# Altium schematic symbol library 嵌入式元件.SchLib: 57 symbols
Pins are listed as number, name and electrical type; pins without a type are passive.

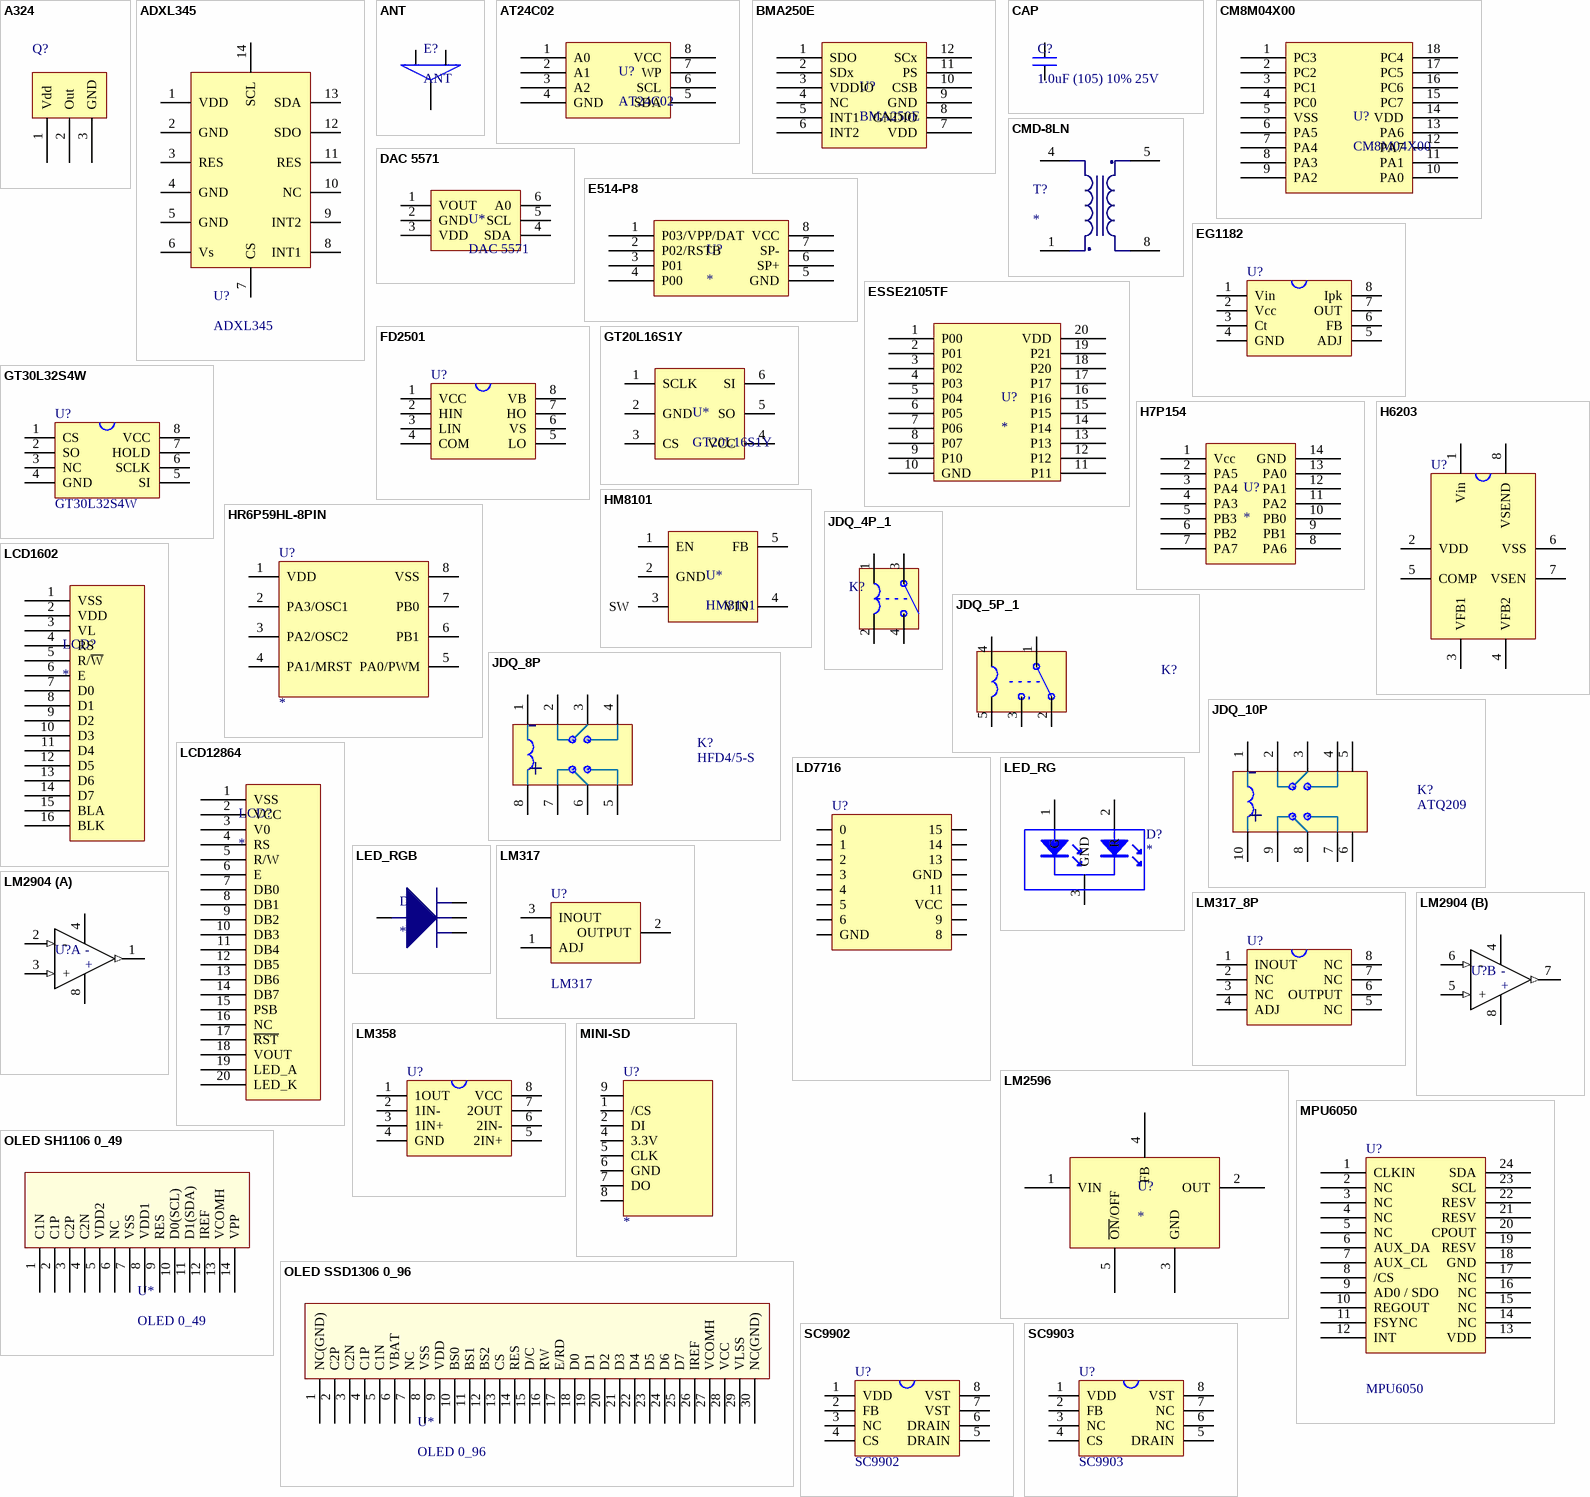
[diagram p0: symbols A324 to SC9903]

## A324
designator Q?
霍尔元件 线性
footprint LC-SOT-23-3L (http://www.aosmd.com/res/packaging_information/SOT-23-3L.pdf)
pins: 1 Vdd, 2 Out, 3 GND

## ADXL345
designator U?
传感器 角速度
footprint ADXL345
pins: 1 VDD, 2 GND, 3 RES, 4 GND, 5 GND, 6 Vs, 7 CS, 8 INT1, 9 INT2, 10 NC, 11 RES, 12 SDO, 13 SDA, 14 SCL

## ANT
designator E?
天线
footprint ANT2
footprint ANT1 (天线接口 插件)
pins: 1, 2, 2
1 alternate drawing of the same symbol

## AT24C02
designator U?
EEPROM
footprint SOP-8_150mil
pins: 1 A0, 2 A1, 3 A2, 4 GND, 5 SDA, 6 SCL, 7 WP, 8 VCC

## BMA250E
designator U?
传感器 角度传感器
footprint BMA250E
pins: 1 SDO, 2 SDx, 3 VDDIO, 4 NC, 5 INT1, 6 INT2, 7 VDD, 8 GNDIO, 9 GND, 10 CSB, 11 PS, 12 SCx

## CAP
designator C?, comment 1.0uF (105) 10% 25V
电容 贴片
footprint LC-0603_C
footprint LC-0805_C
footprint LC-1206_C
footprint RAD0.2
pins: 1, 2

## CM8M04X00
designator U?
MCU
footprint SO-18W
pins: 1 PC3, 2 PC2, 3 PC1, 4 PC0, 5 VSS, 6 PA5, 7 PA4, 8 PA3, 9 PA2, 10 PA0, 11 PA1, 12 PA7, 13 PA6, 14 VDD, 15 PC7, 16 PC6, 17 PC5, 18 PC4

## CMD-8LN
designator T?
变压器
pins: 1, 4, 5, 8

## DAC 5571
designator U*
DAC IC
footprint SOT-23-6
pins: 1 VOUT, 2 GND, 3 VDD, 4 SDA, 5 SCL, 6 A0

## E514-P8
designator U?
语音芯片
footprint LC-SOP-8_150mil
pins: 1 P03/VPP/DAT, 2 P02/RSTB, 3 P01, 4 P00, 5 GND, 6 SP+, 7 SP-, 8 VCC

## EG1182
designator U?
电源IC
footprint SO-8N
pins: 1 Vin, 2 Vcc, 3 Ct, 4 GND, 5 ADJ, 6 FB, 7 OUT, 8 Ipk

## ESSE2105TF
designator U?
MCU
footprint SSOP-20
pins: 1 P00, 2 P01, 3 P02, 4 P03, 5 P04, 6 P05, 7 P06, 8 P07, 9 P10, 10 GND, 11 P11, 12 P12, 13 P13, 14 P14, 15 P15, 16 P16, 17 P17, 18 P20, 19 P21, 20 VDD

## FD2501
designator U?
MOS驱动IC
footprint SO-8N
pins: 1 VCC, 2 HIN, 3 LIN, 4 COM, 5 LO, 6 VS, 7 HO, 8 VB

## GT20L16S1Y
designator U*
字库IC
footprint SOT-23-6
pins: 1 SCLK, 2 GND, 3 CS, 4 VCC, 5 SO, 6 SI

## GT30L32S4W
designator U?
字库IC
footprint SO-8_4.4mm
pins: 1 CS, 2 SO, 3 NC, 4 GND, 5 SI, 6 SCLK, 7 HOLD, 8 VCC

## H7P154
designator U?
MCU
pins: 1 Vcc, 2 PA5, 3 PA4, 4 PA3, 5 PB3, 6 PB2, 7 PA7, 8 PA6, 9 PB1, 10 PB0, 11 PA2, 12 PA1, 13 PA0, 14 GND

## H6203
designator U?
电源IC
footprint SOP-8_150mil
pins: 1 Vin, 2 VDD, 3 VFB1, 4 VFB2, 5 COMP, 6 VSS, 7 VSEN, 8 VSEND

## HM8101
designator U*
电源
footprint SOT-23-5
pins: 1 EN, 2 GND, 3 SW, 4 VIN, 5 FB

## HR6P59HL-8PIN
designator U?
MCU
pins: 1 VDD, 2 PA3/OSC1, 3 PA2/OSC2, 4 PA1/MRST, 5 PA0/PWM, 6 PB1, 7 PB0, 8 VSS

## JDQ_4P_1
designator K?
继电器
footprint JDQ_HF49FD
footprint JDQ_HF49FD-W (Footprint not found)
pins: 1 L1, 2 L2, 3 com, 4 NO

## JDQ_5P_1
designator K?
继电器
footprint jdq-RELAY-T74
footprint JDQ_HF41F 5-Z8SG
footprint jdq-NVF4-3C-S60b
pins: 1, 2, 3, 4, 5

## JDQ_8P
designator K?, comment HFD4/5-S
继电器
footprint jdq_HFD4_T
footprint jdq_HFD4_C
pins: 1, 2, 3, 4, 5, 6, 7, 8
1 alternate drawing of the same symbol
text: -; +

## JDQ_10P
designator K?, comment ATQ209
继电器
footprint JDQ ATQ209 松下
pins: 1, 2, 3, 4, 5, 6, 7, 8, 9, 10
1 alternate drawing of the same symbol
text: -; +

## LCD1602
designator LCD?
screen
pins: 1 VSS, 2 VDD, 3 VL, 4 RS, 5 R/~{W}, 6 E, 7 D0, 8 D1, 9 D2, 10 D3, 11 D4, 12 D5, 13 D6, 14 D7, 15 BLA, 16 BLK

## LCD12864
designator LCD?
screen
pins: 1 VSS, 2 VCC, 3 V0, 4 RS, 5 R/W, 6 E, 7 DB0, 8 DB1, 9 DB2, 10 DB3, 11 DB4, 12 DB5, 13 DB6, 14 DB7, 15 PSB, 16 NC, 17 ~{RST}, 18 VOUT, 19 LED_A, 20 LED_K

## LD7716
designator U?
电能计量
footprint SO-16N
pins: 1 0, 2 1, 3 2, 4 3, 5 4, 6 5, 7 6, 8 GND, 9 8, 10 9, 11 VCC, 12 11, 13 GND, 14 13, 15 14, 16 15

## LED_RG
designator D?
LED 2色
pins: 1 G, 2 R, 3 GND

## LED_RGB
designator D?
LED 3色
footprint LED_RGB1
pins: 1, 2, 3, 4

## LM317
designator U?
电源
footprint SOT-89
footprint SOT-223
pins: 1 ADJ, 2 OUTPUT, 3 INOUT

## LM317_8P
designator U?
电源
footprint SO-8N
pins: 1 INOUT, 2 NC, 3 NC, 4 ADJ, 5 NC, 6 OUTPUT, 7 NC, 8 NC

## LM358
designator U?
运放
footprint SO-8N
pins: 1 1OUT, 2 1IN-, 3 1IN+, 4 GND, 5 2IN+, 6 2IN-, 7 2OUT, 8 VCC

## LM2596
designator U?
电源
footprint TO-263 (PITCH 1.7MM,5P)
pins: 1 VIN, 2 OUT, 3 GND, 4 FB, 5 ~{ON}/OFF

## LM2904
designator U?
运放
footprint SOP-8_150mil
part A pins: 1 OUT (out), 2 - (in), 3 + (in), 4 V- (power), 8 V+ (power)
part B pins: 4 GND (power), 5 + (in), 6 - (in), 7 OUT (out), 8 V+ (power)

## MINI-SD
designator U?
SD卡
pins: 1 /CS, 2 DI, 4 3.3V, 5 CLK, 6 GND, 7 DO, 8, 9

## MPU6050
designator U?
传感器 角度
footprint QFN-24_4x4x05P_1
pins: 1 CLKIN, 2 NC, 3 NC, 4 NC, 5 NC, 6 AUX_DA, 7 AUX_CL, 8 /CS, 9 AD0 / SDO, 10 REGOUT, 11 FSYNC, 12 INT, 13 VDD, 14 NC, 15 NC, 16 NC, 17 NC, 18 GND, 19 RESV, 20 CPOUT, 21 RESV, 22 RESV, 23 SCL, 24 SDA

## OLED SH1106 0_49
designator U*, comment OLED 0_49
OLED
footprint OLED SH1106 0_49
pins: 1 C1N, 2 C1P, 3 C2P, 4 C2N, 5 VDD2, 6 NC, 7 VSS, 8 VDD1, 9 RES, 10 D0(SCL), 11 D1(SDA), 12 IREF, 13 VCOMH, 14 VPP

## OLED SSD1306 0_96
designator U*, comment OLED 0_96
OLED
footprint OLED SSD1306 0_96
pins: 1 NC(GND), 2 C2P, 3 C2N, 4 C1P, 5 C1N, 6 VBAT, 7 NC, 8 VSS, 9 VDD, 10 BS0, 11 BS1, 12 BS2, 13 CS, 14 RES, 15 D/C, 16 RW, 17 E/RD, 18 D0, 19 D1, 20 D2, 21 D3, 22 D4, 23 D5, 24 D6, 25 D7, 26 IREF, 27 VCOMH, 28 VCC, 29 VLSS, 30 NC(GND)

## SC9902
designator U?
电源
footprint SOP-8_150mil
pins: 1 VDD, 2 FB, 3 NC, 4 CS, 5 DRAIN, 6 DRAIN, 7 VST, 8 VST

## SC9903
designator U?
电源
footprint SOP-8_150mil
pins: 1 VDD, 2 FB, 3 NC, 4 CS, 5 DRAIN, 6 NC, 7 NC, 8 VST

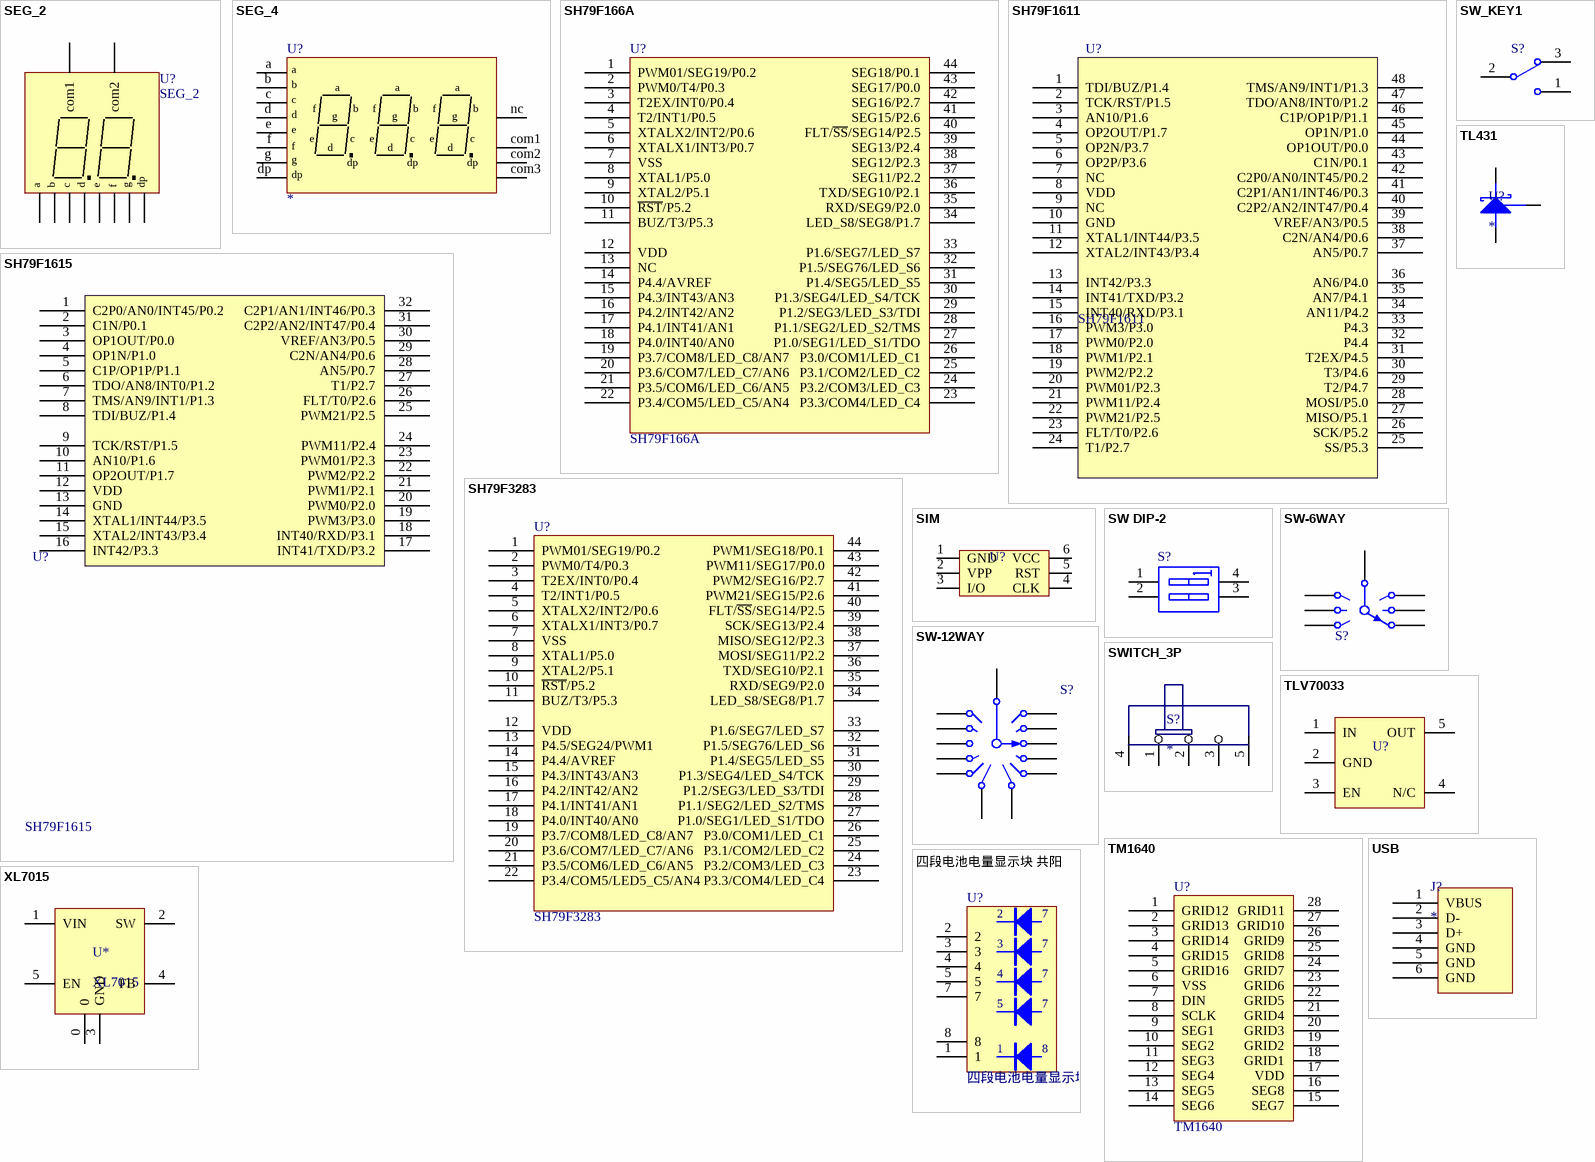
[diagram p1: symbols SEG_2 to 四段电池电量显示块 共阳]

## SEG_2
designator U?
数码管 2com
footprint seg_com2
footprint seg_com2薄的
pins: a, b, c, com1, com2, d, dp, e, f, g

## SEG_4
designator U?
数码管 4com
footprint SP410561
pins: a, b, c, com1, com2, com3, d, dp, e, f, g, nc

## SH79F166A
designator U?
MCU; Text Field2: 16FA03; Text Field3: QFP44
footprint LC-LQFP-44_10x10x08P
pins: 1 PWM01/SEG19/P0.2, 2 PWM0/T4/P0.3, 3 T2EX/INT0/P0.4, 4 T2/INT1/P0.5, 5 XTALX2/INT2/P0.6, 6 XTALX1/INT3/P0.7, 7 VSS, 8 XTAL1/P5.0, 9 XTAL2/P5.1, 10 ~{RST}/P5.2, 11 BUZ/T3/P5.3, 12 VDD, 13 NC, 14 P4.4/AVREF, 15 P4.3/INT43/AN3, 16 P4.2/INT42/AN2, 17 P4.1/INT41/AN1, 18 P4.0/INT40/AN0, 19 P3.7/COM8/LED_C8/AN7, 20 P3.6/COM7/LED_C7/AN6, 21 P3.5/COM6/LED_C6/AN5, 22 P3.4/COM5/LED_C5/AN4, 23 P3.3/COM4/LED_C4, 24 P3.2/COM3/LED_C3, 25 P3.1/COM2/LED_C2, 26 P3.0/COM1/LED_C1, 27 P1.0/SEG1/LED_S1/TDO, 28 P1.1/SEG2/LED_S2/TMS, 29 P1.2/SEG3/LED_S3/TDI, 30 P1.3/SEG4/LED_S4/TCK, 31 P1.4/SEG5/LED_S5, 32 P1.5/SEG76/LED_S6, 33 P1.6/SEG7/LED_S7, 34 LED_S8/SEG8/P1.7, 35 RXD/SEG9/P2.0, 36 TXD/SEG10/P2.1, 37 SEG11/P2.2, 38 SEG12/P2.3, 39 SEG13/P2.4, 40 FLT/~{SS}/SEG14/P2.5, 41 SEG15/P2.6, 42 SEG16/P2.7, 43 SEG17/P0.0, 44 SEG18/P0.1
2 alternate drawings of the same symbol

## SH79F1611
designator U?
MCU
footprint LC-TQFP-48_7x7x05P
pins: 1 TDI/BUZ/P1.4, 2 TCK/RST/P1.5, 3 AN10/P1.6, 4 OP2OUT/P1.7, 5 OP2N/P3.7, 6 OP2P/P3.6, 7 NC, 8 VDD, 9 NC, 10 GND, 11 XTAL1/INT44/P3.5, 12 XTAL2/INT43/P3.4, 13 INT42/P3.3, 14 INT41/TXD/P3.2, 15 INT40/RXD/P3.1, 16 PWM3/P3.0, 17 PWM0/P2.0, 18 PWM1/P2.1, 19 PWM2/P2.2, 20 PWM01/P2.3, 21 PWM11/P2.4, 22 PWM21/P2.5, 23 FLT/T0/P2.6, 24 T1/P2.7, 25 SS/P5.3, 26 SCK/P5.2, 27 MISO/P5.1, 28 MOSI/P5.0, 29 T2/P4.7, 30 T3/P4.6, 31 T2EX/P4.5, 32 P4.4, 33 P4.3, 34 AN11/P4.2, 35 AN7/P4.1, 36 AN6/P4.0, 37 AN5/P0.7, 38 C2N/AN4/P0.6, 39 VREF/AN3/P0.5, 40 C2P2/AN2/INT47/P0.4, 41 C2P1/AN1/INT46/P0.3, 42 C2P0/AN0/INT45/P0.2, 43 C1N/P0.1, 44 OP1OUT/P0.0, 45 OP1N/P1.0, 46 C1P/OP1P/P1.1, 47 TDO/AN8/INT0/P1.2, 48 TMS/AN9/INT1/P1.3
2 alternate drawings of the same symbol

## SH79F1615
designator U?
MCU
footprint TQFP-32_7x7x08P
pins: 1 C2P0/AN0/INT45/P0.2, 2 C1N/P0.1, 3 OP1OUT/P0.0, 4 OP1N/P1.0, 5 C1P/OP1P/P1.1, 6 TDO/AN8/INT0/P1.2, 7 TMS/AN9/INT1/P1.3, 8 TDI/BUZ/P1.4, 9 TCK/RST/P1.5, 10 AN10/P1.6, 11 OP2OUT/P1.7, 12 VDD, 13 GND, 14 XTAL1/INT44/P3.5, 15 XTAL2/INT43/P3.4, 16 INT42/P3.3, 17 INT41/TXD/P3.2, 18 INT40/RXD/P3.1, 19 PWM3/P3.0, 20 PWM0/P2.0, 21 PWM1/P2.1, 22 PWM2/P2.2, 23 PWM01/P2.3, 24 PWM11/P2.4, 25 PWM21/P2.5, 26 FLT/T0/P2.6, 27 T1/P2.7, 28 AN5/P0.7, 29 C2N/AN4/P0.6, 30 VREF/AN3/P0.5, 31 C2P2/AN2/INT47/P0.4, 32 C2P1/AN1/INT46/P0.3
2 alternate drawings of the same symbol

## SH79F3283
designator U?
MCU; Text Field2: 16FA03; Text Field3: QFP44
footprint LC-LQFP-44_10x10x08P
pins: 1 PWM01/SEG19/P0.2, 2 PWM0/T4/P0.3, 3 T2EX/INT0/P0.4, 4 T2/INT1/P0.5, 5 XTALX2/INT2/P0.6, 6 XTALX1/INT3/P0.7, 7 VSS, 8 XTAL1/P5.0, 9 XTAL2/P5.1, 10 ~{RST}/P5.2, 11 BUZ/T3/P5.3, 12 VDD, 13 P4.5/SEG24/PWM1, 14 P4.4/AVREF, 15 P4.3/INT43/AN3, 16 P4.2/INT42/AN2, 17 P4.1/INT41/AN1, 18 P4.0/INT40/AN0, 19 P3.7/COM8/LED_C8/AN7, 20 P3.6/COM7/LED_C7/AN6, 21 P3.5/COM6/LED_C6/AN5, 22 P3.4/COM5/LED5_C5/AN4, 23 P3.3/COM4/LED_C4, 24 P3.2/COM3/LED_C3, 25 P3.1/COM2/LED_C2, 26 P3.0/COM1/LED_C1, 27 P1.0/SEG1/LED_S1/TDO, 28 P1.1/SEG2/LED_S2/TMS, 29 P1.2/SEG3/LED_S3/TDI, 30 P1.3/SEG4/LED_S4/TCK, 31 P1.4/SEG5/LED_S5, 32 P1.5/SEG76/LED_S6, 33 P1.6/SEG7/LED_S7, 34 LED_S8/SEG8/P1.7, 35 RXD/SEG9/P2.0, 36 TXD/SEG10/P2.1, 37 MOSI/SEG11/P2.2, 38 MISO/SEG12/P2.3, 39 SCK/SEG13/P2.4, 40 FLT/~{SS}/SEG14/P2.5, 41 PWM21/SEG15/P2.6, 42 PWM2/SEG16/P2.7, 43 PWM11/SEG17/P0.0, 44 PWM1/SEG18/P0.1
2 alternate drawings of the same symbol

## SIM
designator U?  (value not drawn)
卡座 SIM
footprint SIM1 (SIM座)
footprint SIM2 (SD座)
pins: 1 GND, 2 VPP, 3 I/O, 4 CLK, 5 RST, 6 VCC

## SW DIP-2
designator S?  (value not drawn)
开关 2对; Published: 24-Mar-1999; LatestRevisionDate: 17-Jul-2002; LatestRevisionNote: Re-released for DXP Platform.; PackageReference: DIP-4; Publisher: Altium Limited
footprint DIP-4 (DIP; 4 Leads; Row Spacing 7.62 mm; Pitch 2.54 mm)
simulation model dpsw2 (Spice Subcircuit)
pins: 1 A1, 2 A2, 3 B2, 4 B1

## SW-6WAY
designator S?  (value not drawn)
开关 6CH; Published: 24-Mar-1999; LatestRevisionDate: 17-Jul-2002; LatestRevisionNote: Re-released for DXP Platform.; PackageReference: SW-7; Publisher: Altium Limited; PackageDescription: Switch; 7 Leads
footprint SW-7 (Switch; 7 Leads)
pins: 1, 2, 3, 4, 5, 6, 7

## SW-12WAY
designator S?  (value not drawn)
开关 12CH; Published: 24-Mar-1999; LatestRevisionDate: 17-Jul-2002; LatestRevisionNote: Re-released for DXP Platform.; PackageReference: DIP-13(14); Publisher: Altium Limited
footprint DIP-13(14) (DIP; 14 Leads (1 Absent); Row Spacing 7.62 mm; Pitch 2.54 mm)
pins: 1, 2, 3, 5, 6, 7, 8, 9, 10, 11, 12, 13, 14

## SW_KEY1
designator S?  (value not drawn)
开关 1P-2; Published: 24-Mar-1999; LatestRevisionDate: 17-Dec-2003; LatestRevisionNote: Schematic revised, PCB Footprint replaced.; DatasheetVersion: 05-Dec-2000; PackageReference: TL36WW15050; Publisher: Altium Limited; PackageDescription: Switch; 4 Leads; ComponentLink1Description: Manufacturer Link; ComponentLink1URL: http://www.apem.com
footprint TL36WW15050 (Switch; 4 Leads)
pins: 1, 2, 3

## SWITCH_3P
designator S?
开关 3档
pins: 1, 2, 3, 4, 5

## TL431
designator U?
电源
footprint SOT-23
pins: 1 R, 2 K, 3 A

## TLV70033
designator U?
电源3V3; ComponentLink1Description: 供应商链接; ComponentLink1URL: http://www.szlcsc.com/product/details_6652.html; Package: SOT-223; Supplier: LC; SuppliersPartNumber: C6186
footprint SOT-23-5
pins: 1 IN (power), 2 GND, 3 EN (power), 4 N/C, 5 OUT

## TM1640
designator U?
LED
footprint SO-28W
pins: 1 GRID12, 2 GRID13, 3 GRID14, 4 GRID15, 5 GRID16, 6 VSS, 7 DIN, 8 SCLK, 9 SEG1, 10 SEG2, 11 SEG3, 12 SEG4, 13 SEG5, 14 SEG6, 15 SEG7, 16 SEG8, 17 VDD, 18 GRID1, 19 GRID2, 20 GRID3, 21 GRID4, 22 GRID5, 23 GRID6, 24 GRID7, 25 GRID8, 26 GRID9, 27 GRID10, 28 GRID11

## USB
designator J?
USB
footprint USB_A
pins: 1 VBUS, 2 D-, 3 D+, 4 GND, 5 GND, 6 GND

## XL7015
designator U*
电源
footprint TO-252-5
pins: 0, 1 VIN, 2 SW, 3 GND, 4 FB, 5 EN

## 四段电池电量显示块 共阳
designator U?
footprint 四段电池电量显示块
pins: 1, 2, 3, 4, 5, 7, 8